# EAGLE library part CINVESTAV_POLOLU756 (library VUG)
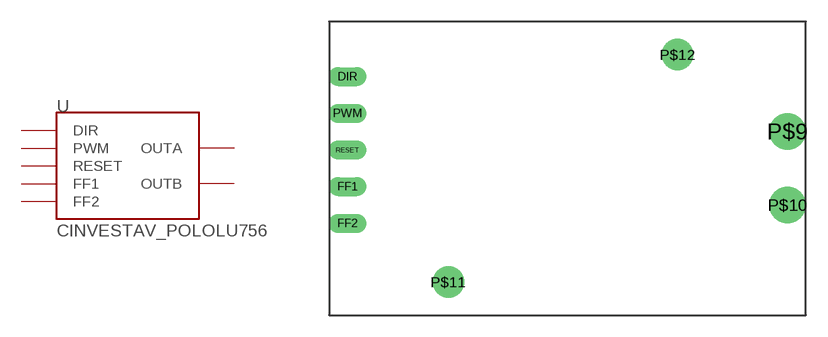
[diagram p4: symbol with the pads of CINVESTAV_756; footprint CINVESTAV_756]

Designator prefix -

## CINVESTAV_POLOLU756  [CINVESTAV_756]
DIR  DIR  in
FF1  FF1  out
FF2  FF2  out
P$9  OUTA
P$10  OUTB
PWM  PWM  in
RESET  RESET  out

## Footprint CINVESTAV_756 (pad centres in mm)
drill 0.8 long: DIR 1.27,16.51; FF1 1.27,8.89; FF2 1.27,6.35; PWM 1.27,13.97; RESET 1.27,11.43
drill 0.8 pad 2.54: P$9 31.75,12.7; P$10 31.75,7.62
drill 0.8 pad 2.184: P$11 8.255,2.286; P$12 24.13,18.034